# EAGLE library part PICO-10_RA_1.50MM (library esbd-connectors)
PICO-10_RA_1.50MM Molex 1.50mm pitch / Wire-to-board system offers an ideal combination of low profile, high current and durable locking for any application requiring space savings and secure mating retention
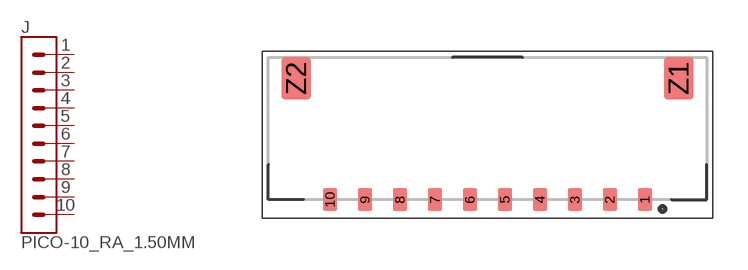
[diagram p24: symbol with the pads of PICO-10_RA_1.50MM; footprint PICO-10_RA_1.50MM]

Designator prefix J

## PICO-10_RA_1.50MM  [PICO-10_RA_1.50MM]
1  1  pas
2  2  pas
3  3  pas
4  4  pas
5  5  pas
6  6  pas
7  7  pas
8  8  pas
9  9  pas
10  10  pas

## Footprint PICO-10_RA_1.50MM (pad centres in mm)
https://www.molex.com/pdm_docs/sd/5040500291_sd.pdf
smd 0.6 x 1: 1 6.75,-3; 2 5.25,-3; 3 3.75,-3; 4 2.25,-3; 5 0.75,-3; 6 -0.75,-3; 7 -2.25,-3; 8 -3.75,-3; 9 -5.25,-3; 10 -6.75,-3
smd 1.25 x 1.8: Z1 8.2,2.2; Z2 -8.2,2.2